# Altium footprint library resistor.PCBLIB: 427 footprints (part 17 of 27)
Each footprint in its own frame and in the unit in brackets; x right, y up, seen from the top. Pads: shape width x height; smd on the part's side, far side on the other; paste and mask are expansions set on the pad; w line width, h text height; cw(c..) or ccw(c..) is an arc to the next point about the centre after c.
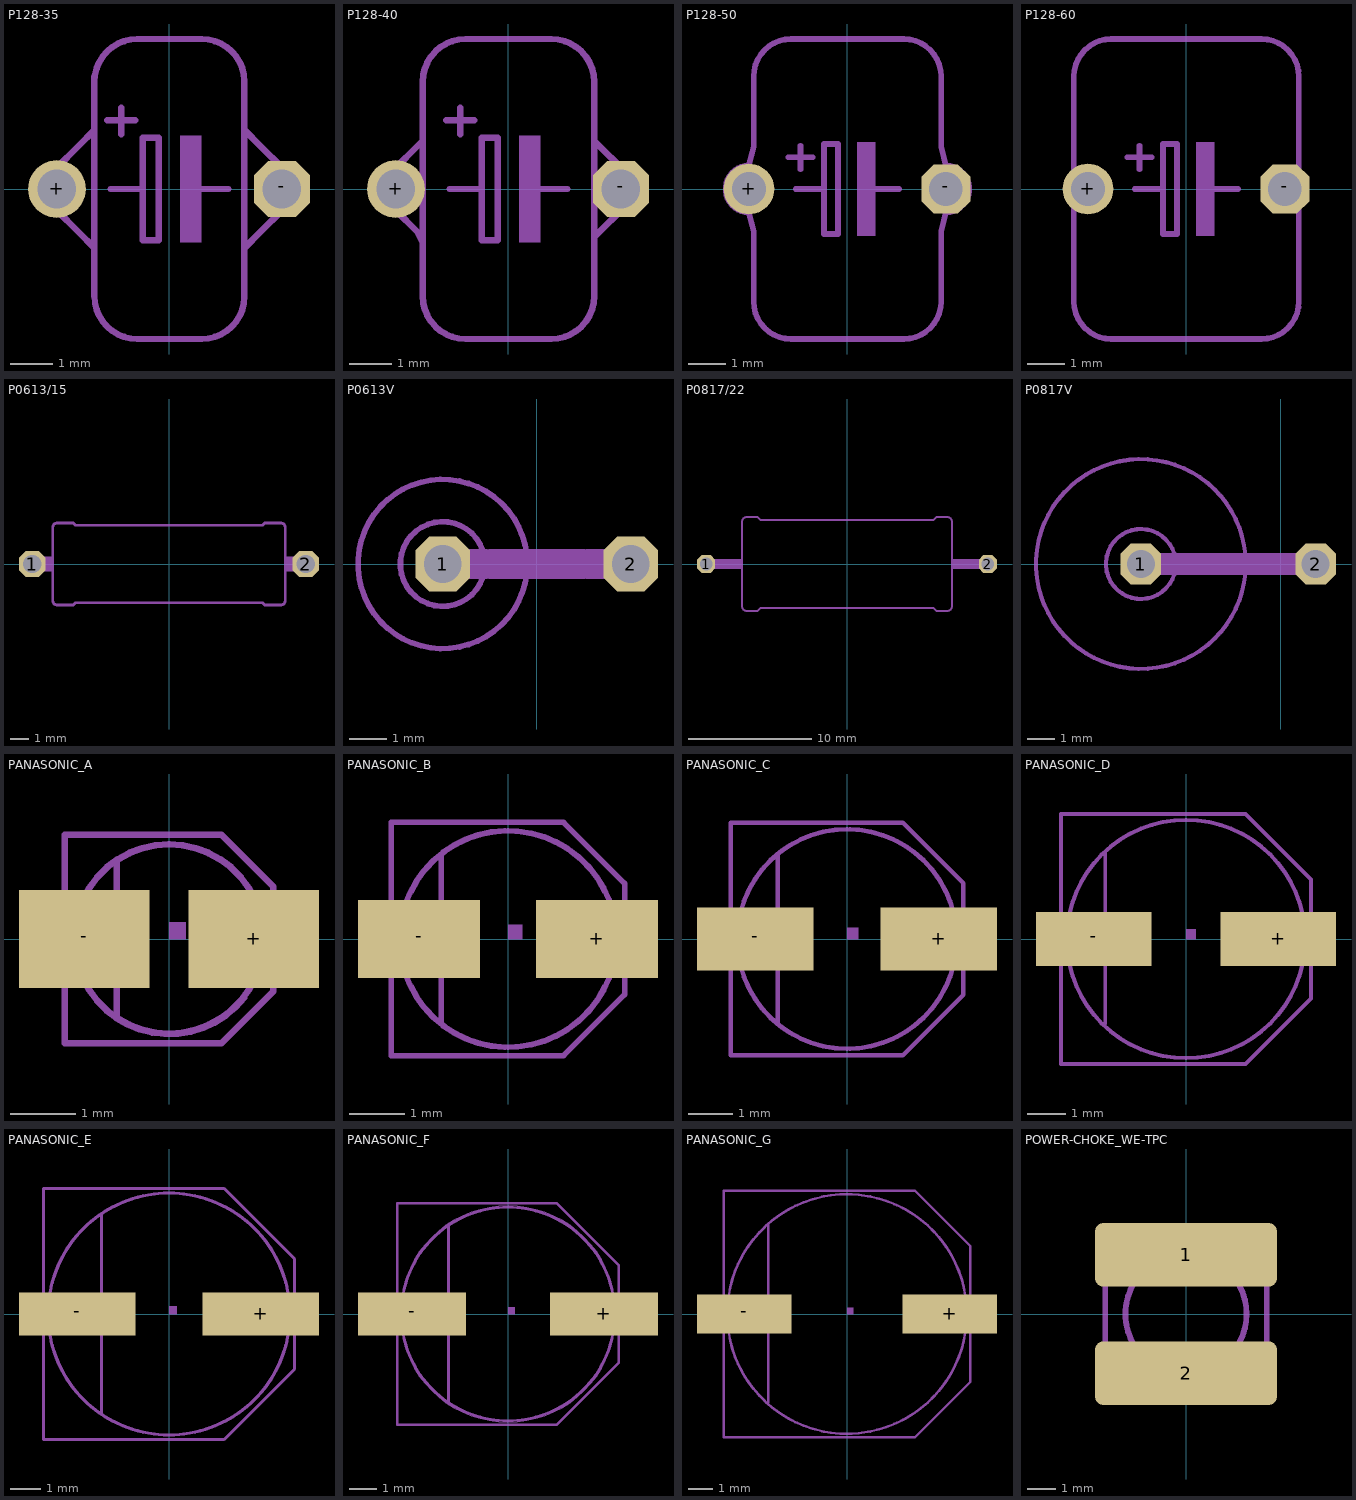
[diagram p16: the footprints below, top view; thin cyan lines are the x and y axes]

## P128-35 [mil]
pads (2):
  round 54 hole 36: +(-105,0)
  oct 52.29x52.29 hole 36: -(105,0)
Mechanical 2:
  rectangle: 10,-50 30,50
  lines w6: -85,-40 -70,-55 ; -85,40 -70,55 ; -70,-25 -70,-55 ; -70,25 -70,55 ; -70,100 cw(c-30,100) -30,140 30,140 cw(c30,100) 70,100 70,55 ; -70,105 -70,55 ; -58,64 -32,64 ; -55,0 -25,0 ; -45,51 -45,76 ; 25,0 55,0 ; 70,-25 70,-55 ; 70,25 70,55 ; 85,-40 70,-55 ; 85,40 70,55 ; -70,-55 -70,-100 ccw(c-30,-100) -30,-140 30,-140 ccw(c30,-100) 70,-100 70,-55 ; -25,0 -25,-48 -10,-48 -10,48 -25,48 -25,0
Mechanical 18:
  lines w6: -85,-40 -105,-20 cw(c-105,0) -105,20 -85,40 ; -70,-25 -70,25 ; 70,-25 70,25 ; 85,-40 105,-20 ccw(c105,0) 105,20 85,40

## P128-40 [mil]
pads (2):
  round 54 hole 36: +(-105,0)
  oct 52.29x52.29 hole 36: -(105,0)
Mechanical 2:
  rectangle: 10,-50 30,50
  lines w6: -85,-40 -80,-50 ; -85,40 -80,45 ; -80,-30 -80,-50 ; -80,30 -80,45 ; -58,64 -32,64 ; -55,0 -25,0 ; -45,51 -45,76 ; 25,0 55,0 ; 80,-30 80,-45 ; 80,30 80,45 ; 85,-40 80,-45 ; 85,40 80,45 ; -80,-50 -80,-100 ccw(c-40,-100) -40,-140 40,-140 ccw(c40,-100) 80,-100 80,-45 ; -80,45 -80,100 cw(c-40,100) -40,140 40,140 cw(c40,100) 80,100 80,45 ; -25,0 -25,-48 -10,-48 -10,48 -25,48 -25,0
Mechanical 18:
  lines w6: -85,-40 -105,-20 cw(c-105,0) -105,20 -85,40 ; -80,-30 -80,30 ; 80,-30 80,30 ; 85,-40 105,-20 ccw(c105,0) 105,20 85,40

## P128-50 [mil]
pads (2):
  round 54 hole 36: +(-105,0)
  oct 52.29x52.29 hole 36: -(105,0)
Mechanical 2:
  rectangle: 10,-50 30,50
  lines w6: -100,-45 -100,-120 ccw(c-60,-120) -60,-160 60,-160 ccw(c60,-120) 100,-120 100,-45 ; -100,45 -100,120 cw(c-60,120) -60,160 60,160 cw(c60,120) 100,120 100,45 ; -63,34 -37,34 ; -55,0 -25,0 ; -50,21 -50,46 ; 25,0 55,0 ; -25,0 -25,-48 -10,-48 -10,48 -25,48 -25,0
Mechanical 18:
  lines w6: -100,-45 -105,-25 cw(c-105,0) -105,25 -100,45 ; 100,-45 105,-25 ccw(c105,0) 105,25 100,45

## P128-60 [mil]
pads (2):
  round 54 hole 36: +(-105,0)
  oct 52.29x52.29 hole 36: -(105,0)
Mechanical 2:
  rectangle: 10,-50 30,50
  lines w6: -120,-45 -120,-120 ccw(c-80,-120) -80,-160 80,-160 ccw(c80,-120) 120,-120 120,-45 ; -120,45 -120,120 cw(c-80,120) -80,160 80,160 cw(c80,120) 120,120 120,45 ; -63,34 -37,34 ; -55,0 -25,0 ; -50,21 -50,46 ; 25,0 55,0 ; -25,0 -25,-48 -10,-48 -10,48 -25,48 -25,0
Mechanical 18:
  lines w6: -120,-45 -120,45 ; 120,-45 120,45

## P0613/15 [mil]
pads (2):
  oct 58.09x58.09 hole 40: 1(-300,0) 2(300,0)
Mechanical 2:
  lines w6: -255,-25 -255,-80 ccw(c-245,-80) -245,-90 -210,-90 -205,-85 205,-85 210,-90 245,-90 ccw(c245,-80) 255,-80 255,-25 ; -255,25 -255,80 cw(c-245,80) -245,90 -210,90 -205,85 205,85 210,90 245,90 cw(c245,80) 255,80 255,25
Mechanical 18:
  rectangle: -277,-16 -255,16
  rectangle: 255,-16 277,16
  lines w6: -255,-25 -255,25 ; 255,-25 255,25
  lines w32: -300,0 -275,0 ; 275,0 300,0

## P0613V [mil]
pads (2):
  oct 58.09x58.09 hole 40: 1(-100,0) 2(100,0)
Mechanical 2:
  circle w6: c-100,0 r90
  rectangle: -51,-16 52,16
Mechanical 18:
  circle w6: c-100,0 r45
  lines w32: -100,0 -55,0 ; 55,0 100,0

## P0817/22 [mil]
pads (2):
  oct 58.09x58.09 hole 40: 1(-450,0) 2(450,0)
Mechanical 2:
  rectangle: 335,-16 406,16
  rectangle: -406,-16 -335,16
  lines w6: -335,-135 -335,135 cw(c-320,135) -320,150 -285,150 -275,140 275,140 285,150 320,150 cw(c320,135) 335,135 335,-135 cw(c320,-135) 320,-150 285,-150 275,-140 -275,-140 -285,-150 -320,-150 cw(c-320,-135) -335,-135
Mechanical 18:
  lines w32: -450,0 -410,0 ; 410,0 450,0

## P0817V [mil]
pads (2):
  oct 58.09x58.09 hole 40: 1(-200,0) 2(50,0)
Mechanical 2:
  circle w6: c-200,0 r150
  rectangle: -150,-16 0,16
Mechanical 18:
  circle w6: c-200,0 r50
  lines w32: -200,0 -150,0 ; 0,0 50,0

## PANASONIC_A [mm]
pads (2):
  rect 2x1.5 smd: +(1.3,0) -(-1.3,0)
Mechanical 2:
  lines w0.102: -1.6,-0.95 -1.6,-1.6 0.8,-1.6 1.5,-0.9 ; -1.6,0.95 -1.6,1.6 0.8,1.6 1.5,0.9 ; -1.1,-0.95 ccw(c0.004,0) 1.15,-0.9 ; -1.1,0.95 cw(c0,0) 1.1,0.95
Mechanical 18:
  circle w0.102: c0,0 r1.45
  rectangle: -1.8,-0.3 -1.45,0.3
  rectangle: 1.45,-0.3 1.8,0.3
  region: 0,0 0.254,0 0.254,0.254 0,0.254
  lines w0.102: -0.8,-1.2 -0.8,1.2 ; -1.6,-1.6 0.8,-1.6 1.6,-0.8 1.6,0.8 0.8,1.6 -1.6,1.6 -1.6,-1.6

## PANASONIC_B [mil]
pads (2):
  rect 86.61x55.12 smd: +(62.99,0) -(-62.99,0)
Mechanical 2:
  lines w4: -82.68,-33.46 -82.68,-82.68 39.37,-82.68 82.68,-39.37 ; -82.68,33.46 -82.68,82.68 39.37,82.68 82.68,39.37 ; -68.9,-33.46 ccw(c0,0.01) 68.9,-33.46 ; -68.9,33.46 cw(c0,-0.01) 68.9,33.46
Mechanical 18:
  circle w4: c0,0 r76.77
  rectangle: -90.55,-13.78 -72.83,13.78
  rectangle: 74.8,-13.78 90.55,13.78
  region: 0,0 10,0 10,10 0,10
  lines w4: -47.24,-59.06 -47.24,59.06 ; -82.68,-82.68 39.37,-82.68 82.68,-39.37 82.68,39.37 39.37,82.68 -82.68,82.68 -82.68,-82.68

## PANASONIC_C [mil]
pads (2):
  rect 102.36x55.12 smd: +(80.71,0) -(-80.71,0)
Mechanical 2:
  lines w4: -102.36,-37.4 -102.36,-102.36 49.21,-102.36 102.36,-49.21 102.36,-37.4 ; -102.36,37.4 -102.36,102.36 49.21,102.36 102.36,49.21 102.36,37.4 ; -90.55,-33.46 ccw(c0,0) 90.55,-33.46 ; -90.55,33.46 cw(c0,0) 90.55,33.46
Mechanical 18:
  circle w4: c0,0 r96.46
  rectangle: -116.14,-13.78 -94.49,13.78
  rectangle: 94.49,-13.78 116.14,13.78
  region: 0,0 10,0 10,10 0,10
  lines w4: -61.02,-72.83 -61.02,72.83 ; -102.36,-102.36 49.21,-102.36 102.36,-49.21 102.36,49.21 49.21,102.36 -102.36,102.36 -102.36,-102.36

## PANASONIC_D [mm]
pads (2):
  rect 3x1.4 smd: +(2.4,0) -(-2.4,0)
Mechanical 2:
  lines w0.102: -3.25,-0.95 -3.25,-3.25 1.55,-3.25 3.25,-1.55 3.25,-0.95 ; -3.25,0.95 -3.25,3.25 1.55,3.25 3.25,1.55 3.25,0.95 ; -2.95,-0.95 ccw(c0,0) 2.95,-0.95 ; -2.95,0.95 cw(c0,0) 2.95,0.95
Mechanical 18:
  circle w0.102: c0,0 r3.1
  rectangle: -3.65,-0.35 -3.05,0.35
  rectangle: 3.05,-0.35 3.65,0.35
  region: 0,0 0.254,0 0.254,0.254 0,0.254
  lines w0.102: -2.1,-2.2 -2.1,2.25 ; -3.25,-3.25 1.55,-3.25 3.25,-1.55 3.25,1.55 1.55,3.25 -3.25,3.25 -3.25,-3.25

## PANASONIC_E [mm]
pads (2):
  rect 3.8x1.4 smd: +(3,0) -(-3,0)
Mechanical 2:
  lines w0.102: -4.1,-0.9 -4.1,-4.1 1.8,-4.1 4.1,-1.8 4.1,-0.9 ; -4.1,0.9 -4.1,4.1 1.8,4.1 4.1,1.8 4.1,0.9 ; -3.85,-0.9 ccw(c0,0) 3.85,-0.9 ; -3.85,0.9 cw(c0,0) 3.85,0.9
Mechanical 18:
  circle w0.102: c0,0 r3.95
  rectangle: -4.5,-0.35 -3.8,0.35
  rectangle: 3.8,-0.35 4.5,0.35
  region: 0,0 0.254,0 0.254,0.254 0,0.254
  lines w0.102: -2.2,-3.25 -2.2,3.25 ; -4.1,-4.1 1.8,-4.1 4.1,-1.8 4.1,1.8 1.8,4.1 -4.1,4.1 -4.1,-4.1

## PANASONIC_F [mm]
pads (2):
  rect 4x1.6 smd: +(3.55,0) -(-3.55,0)
Mechanical 2:
  lines w0.102: -4.1,-1 -4.1,-4.1 1.8,-4.1 4.1,-1.8 4.1,-1 ; -4.1,1 -4.1,4.1 1.8,4.1 4.1,1.8 4.1,1 ; -3.85,-0.9 ccw(c0,0) 3.85,-0.9 ; -3.85,0.9 cw(c0,0) 3.85,0.9
Mechanical 18:
  circle w0.001: c0,0 r4
  circle w0.102: c0,0 r3.95
  rectangle: -4.85,-0.45 -3.9,0.45
  rectangle: 3.9,-0.45 4.85,0.45
  region: 0,0 0.254,0 0.254,0.254 0,0.254
  lines w0.102: -2.2,-3.25 -2.2,3.25 ; -4.1,-4.1 1.8,-4.1 4.1,-1.8 4.1,1.8 1.8,4.1 -4.1,4.1 -4.1,-4.1

## PANASONIC_G [mil]
pads (2):
  rect 153.54x62.99 smd: +(167.32,0) -(-167.32,0)
Mechanical 2:
  lines w4: -200.79,-39.37 -200.79,-200.79 110.24,-200.79 200.79,-110.24 200.79,-39.37 ; -200.79,39.37 -200.79,200.79 110.24,200.79 200.79,110.24 200.79,39.37 ; -190.94,-39.37 ccw(c0,0) 190.94,-39.37 ; -190.94,39.37 cw(c0,0) 190.94,39.37
Mechanical 18:
  circle w4: c0,0 r194.88
  rectangle: -230.32,-17.72 -192.91,17.72
  rectangle: 192.91,-17.72 230.32,17.72
  region: 0,0 10,0 10,10 0,10
  lines w4: -127.95,-143.7 -127.95,145.67 ; -200.79,-200.79 110.24,-200.79 200.79,-110.24 200.79,110.24 110.24,200.79 -200.79,200.79 -200.79,-200.79

## POWER-CHOKE_WE-TPC [mil]
pads (2):
  rrect25% 248.03x86.61 smd: 1(0,80.71) 2(0,-80.71)
Mechanical 2:
  lines w7.87: -110.24,-25.59 -110.24,25.59 ; -78.74,-25.59 cw(c0,0) -78.74,25.59 ; 78.74,-25.59 ccw(c0,0) 78.74,25.59 ; 110.24,-25.59 110.24,25.59
Mechanical 18:
  circle w7.87: c0,0 r82.68
  lines w7.87: -110.24,-90.55 ccw(c-90.55,-90.55) -90.55,-110.24 90.55,-110.24 ccw(c90.55,-90.55) 110.24,-90.55 110.24,90.55 ccw(c90.55,90.55) 90.55,110.24 -90.55,110.24 ccw(c-90.55,90.55) -110.24,90.55 -110.24,-90.55